# Altium footprint library 8-TDFN-MAXIM.PcbLib: 1 footprints
Each footprint in its own frame and in the unit in brackets; x right, y up, seen from the top. Pads: shape width x height; smd on the part's side, far side on the other; paste and mask are expansions set on the pad; w line width, h text height; cw(c..) or ccw(c..) is an arc to the next point about the centre after c.
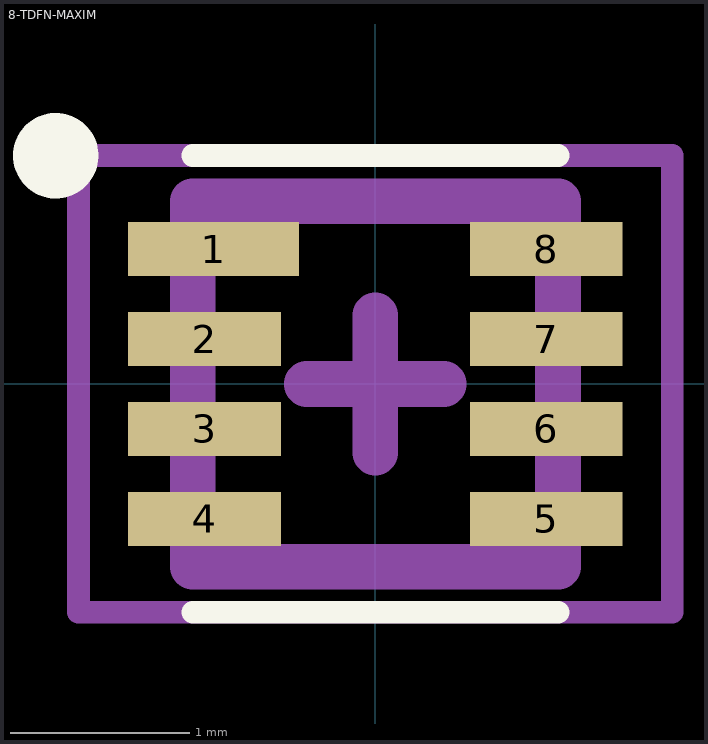
[diagram p0: the footprint, top view; thin cyan lines are the x and y axes]

## 8-TDFN-MAXIM [mm]
pads (8):
  rect 0.95x0.3 smd mask+0.051: 1(-0.9,0.75)
  rect 0.85x0.3 smd mask+0.051: 2(-0.95,0.25) 3(-0.95,-0.25) 4(-0.95,-0.75) 5(0.95,-0.75) 6(0.95,-0.25) 7(0.95,0.25) 8(0.95,0.75)
Top Overlay:
  circle w0.254: c-1.778,1.27 r0.111
  lines w0.127: -1.016,-1.27 1.016,-1.27 ; -1.016,1.27 1.016,1.27
Top Designator:
  text ".Designator" at -7.768,-0.421 h1.52
Mechanical 13:
  lines w0.254: -1.016,-1.016 1.016,-1.016 1.016,1.016 -1.016,1.016 -1.016,-1.016
Mechanical 15:
  lines w0.127: -1.651,-1.27 1.651,-1.27 1.651,1.27 -1.651,1.27 -1.651,-1.27
  lines w0.254: -0.381,0 0,0 ; 0,-0.381 0,0 ; 0,0.381 0,0 ; 0.381,0 0,0
3D body "maxim_90-0349.step": height 0.8, standoff 0, extent -1.05,-1 1.05,1